# Altium schematic symbol library logic.SchLib: 34 symbols
Pins are listed as number, name and electrical type; pins without a type are passive.

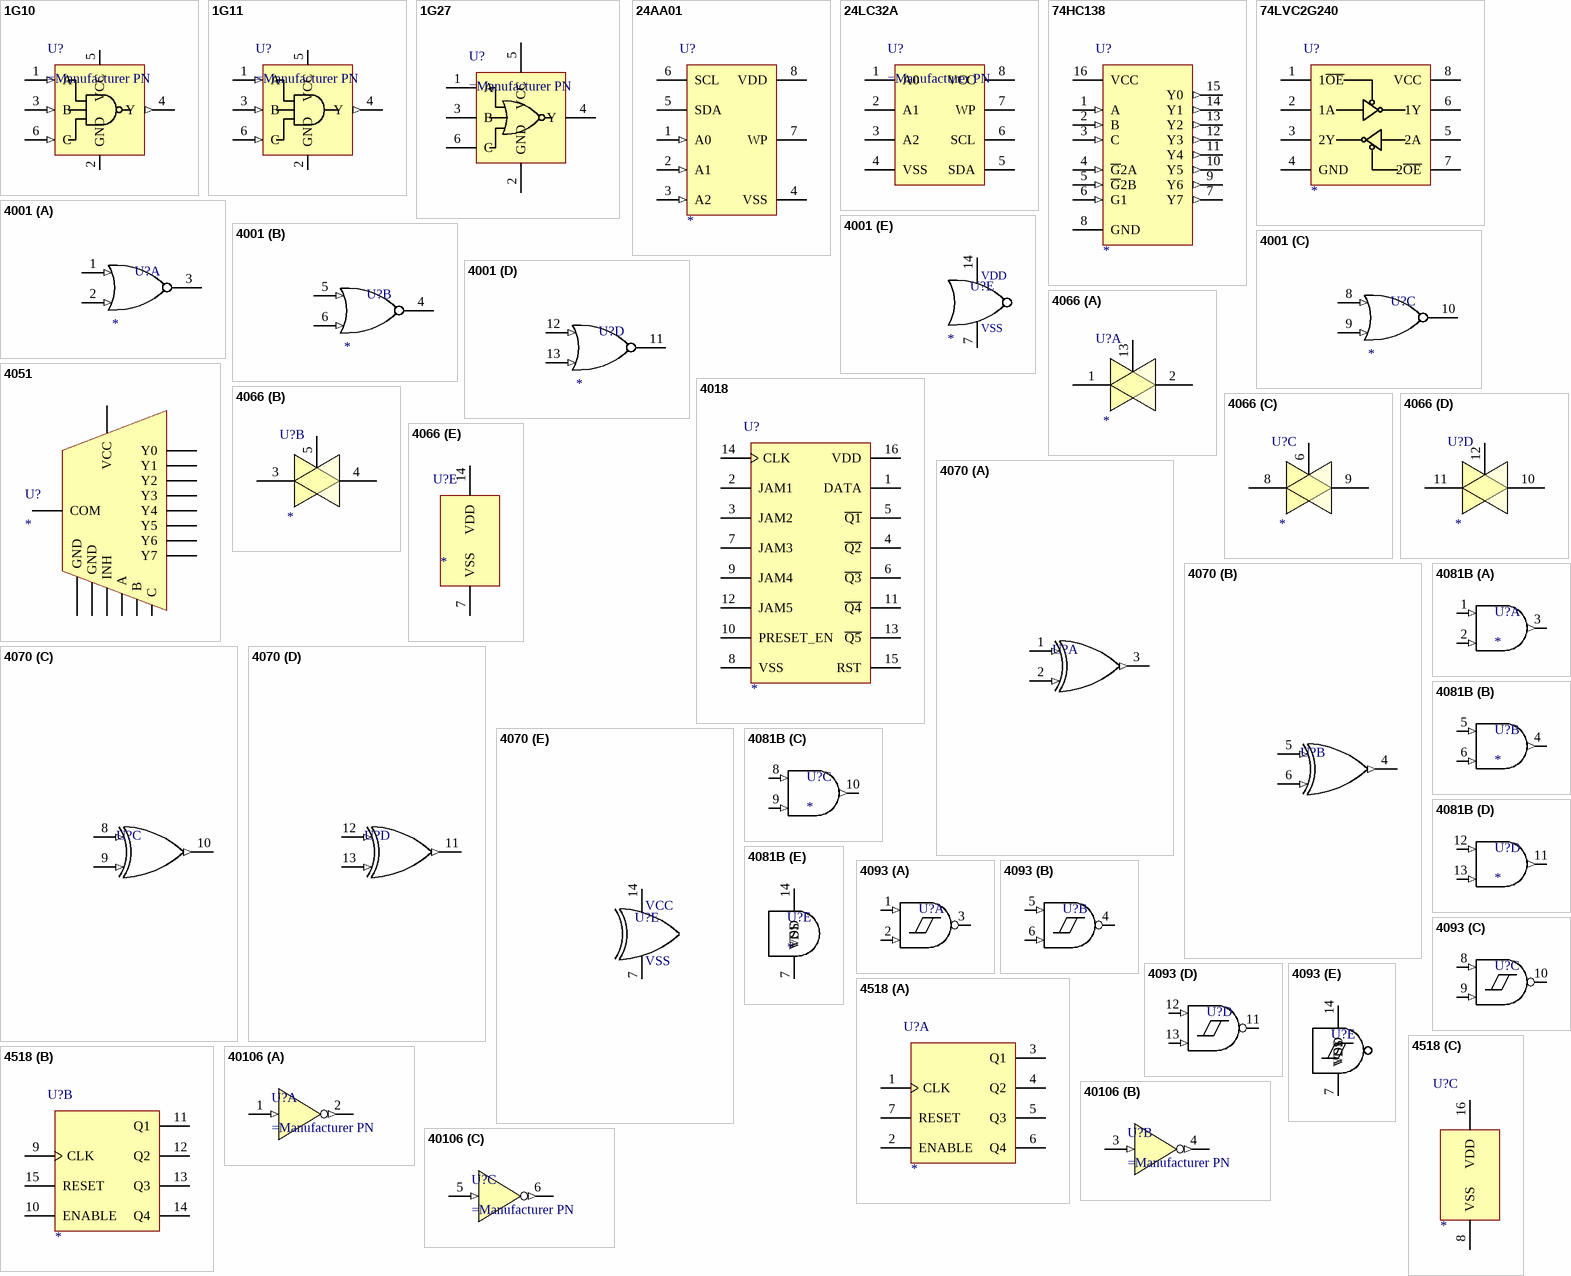
[diagram p0: symbols 1G10 to 40106]

## 1G10
designator U?
Single 3-Input NAND Gate
pins: 1 A (in), 2 GND (power), 3 B (in), 4 Y (out), 5 VCC (power), 6 C (in)

## 1G11
designator U?
Single 3-Input AND Gate
pins: 1 A (in), 2 GND (power), 3 B (in), 4 Y (out), 5 VCC (power), 6 C (in)

## 1G27
designator U?
Single 3-Input NOR Gate
pins: 1 A, 2 GND, 3 B, 4 Y, 5 VCC, 6 C

## 24AA01
designator U?
1Kbit I2C Serial EEPROM, 8-pin; Manufacturer PN: *
pins: 1 A0 (in), 2 A1 (in), 3 A2 (in), 4 VSS (power), 5 SDA (oc), 6 SCL (oc), 7 WP, 8 VDD (power)

## 24LC32A
designator U?
I2C EEPROM
pins: 1 A0, 2 A1, 3 A2, 4 VSS, 5 SDA, 6 SCL, 7 WP, 8 VCC

## 74HC138
designator U?
3:8 Decoder; Manufacturer PN: *
pins: 1 A (in), 2 B (in), 3 C (in), 4 ~{G}2A (in), 5 ~{G}2B (in), 6 G1 (in), 7 Y7 (out), 8 GND (power), 9 Y6 (out), 10 Y5 (out), 11 Y4 (out), 12 Y3 (out), 13 Y2 (out), 14 Y1 (out), 15 Y0 (out), 16 VCC (power)

## 74LVC2G240
designator U?
Dual Inverting Tri-State Buffer; Manufacturer PN: *
pins: 1 1~{OE}, 2 1A, 3 2Y, 4 GND, 5 2A, 6 1Y, 7 2~{OE}, 8 VCC

## 4001
designator U?
Quad NOR; Manufacturer PN: *
part A pins: 1 A (in), 2 B (in), 3 J
part B pins: 4 K, 5 C (in), 6 D (in)
part C pins: 8 E (in), 9 F (in), 10 L
part D pins: 11 M, 12 G (in), 13 H (in)
part E pins: 7 VSS, 14 VDD

## 4018
designator U?
Divide by N Counter; Manufacturer PN: *
pins: 1 DATA, 2 JAM1, 3 JAM2, 4 ~{Q2}, 5 ~{Q1}, 6 ~{Q3}, 7 JAM3, 8 VSS, 9 JAM4, 10 PRESET_EN, 11 ~{Q4}, 12 JAM5, 13 ~{Q5}, 14 CLK, 15 RST, 16 VDD

## 4051
designator U?
8:1 Analog Mux 4051 series; Manufacturer PN: *
pins: 1 Y4, 2 Y6, 3 COM, 4 Y7, 5 Y5, 6 INH, 7 GND, 8 GND, 9 C, 10 B, 11 A, 12 Y3, 13 Y0, 14 Y1, 15 Y2, 16 VCC

## 4066
designator U?
Quad Bilateral Switch; Manufacturer PN: *
part A pins: 1 IN/OUT, 2 OUT/IN, 13 CONTA
part B pins: 3 IN/OUT, 4 OUT/IN, 5 CONTB
part C pins: 6 CONTC, 8 IN/OUT, 9 OUT/IN
part D pins: 10 OUT/IN, 11 IN/OUT, 12 CONTD
part E pins: 7 VSS, 14 VDD

## 4070
designator U?  (value not drawn)
IC, Quad 2-Input XOR Gate; Manufacturer PN: *
part A pins: 1 1A (in), 2 1B (in), 3 1Y (out)
part B pins: 4 2Y (out), 5 2A (in), 6 2B (in)
part C pins: 8 3A (in), 9 3B (in), 10 3Y (out)
part D pins: 11 4Y (out), 12 4A (in), 13 4B (in)
part E pins: 7 GND (power), 14 VCC (power)
part E text: VSS

## 4081B
designator U?
Quad AAND Gate; Manufacturer PN: *
part A pins: 1 A (in), 2 B (in), 3 J (out)
part B pins: 4 K (out), 5 C (in), 6 D (in)
part C pins: 8 E (in), 9 F (in), 10 L (out)
part D pins: 11 M (out), 12 G (in), 13 H (in)
part E pins: 7 VSS (power), 14 VDD (power)

## 4093
designator U?  (value not drawn)
Quad NAND Gate, Schmitt Trigger Inputs; Manufacturer PN: *
part A pins: 1 A (in), 2 B (in), 3 J
part B pins: 4 K, 5 C (in), 6 D (in)
part C pins: 8 E (in), 9 F (in), 10 L
part D pins: 11 M, 12 G (in), 13 H (in)
part E pins: 7 VSS (power), 14 VDD (power)

## 4518
designator U?
Up Counter; Manufacturer PN: *
part A pins: 1 CLK, 2 ENABLE, 3 Q1, 4 Q2, 5 Q3, 6 Q4, 7 RESET
part B pins: 9 CLK, 10 ENABLE, 11 Q1, 12 Q2, 13 Q3, 14 Q4, 15 RESET
part C pins: 8 VSS, 16 VDD

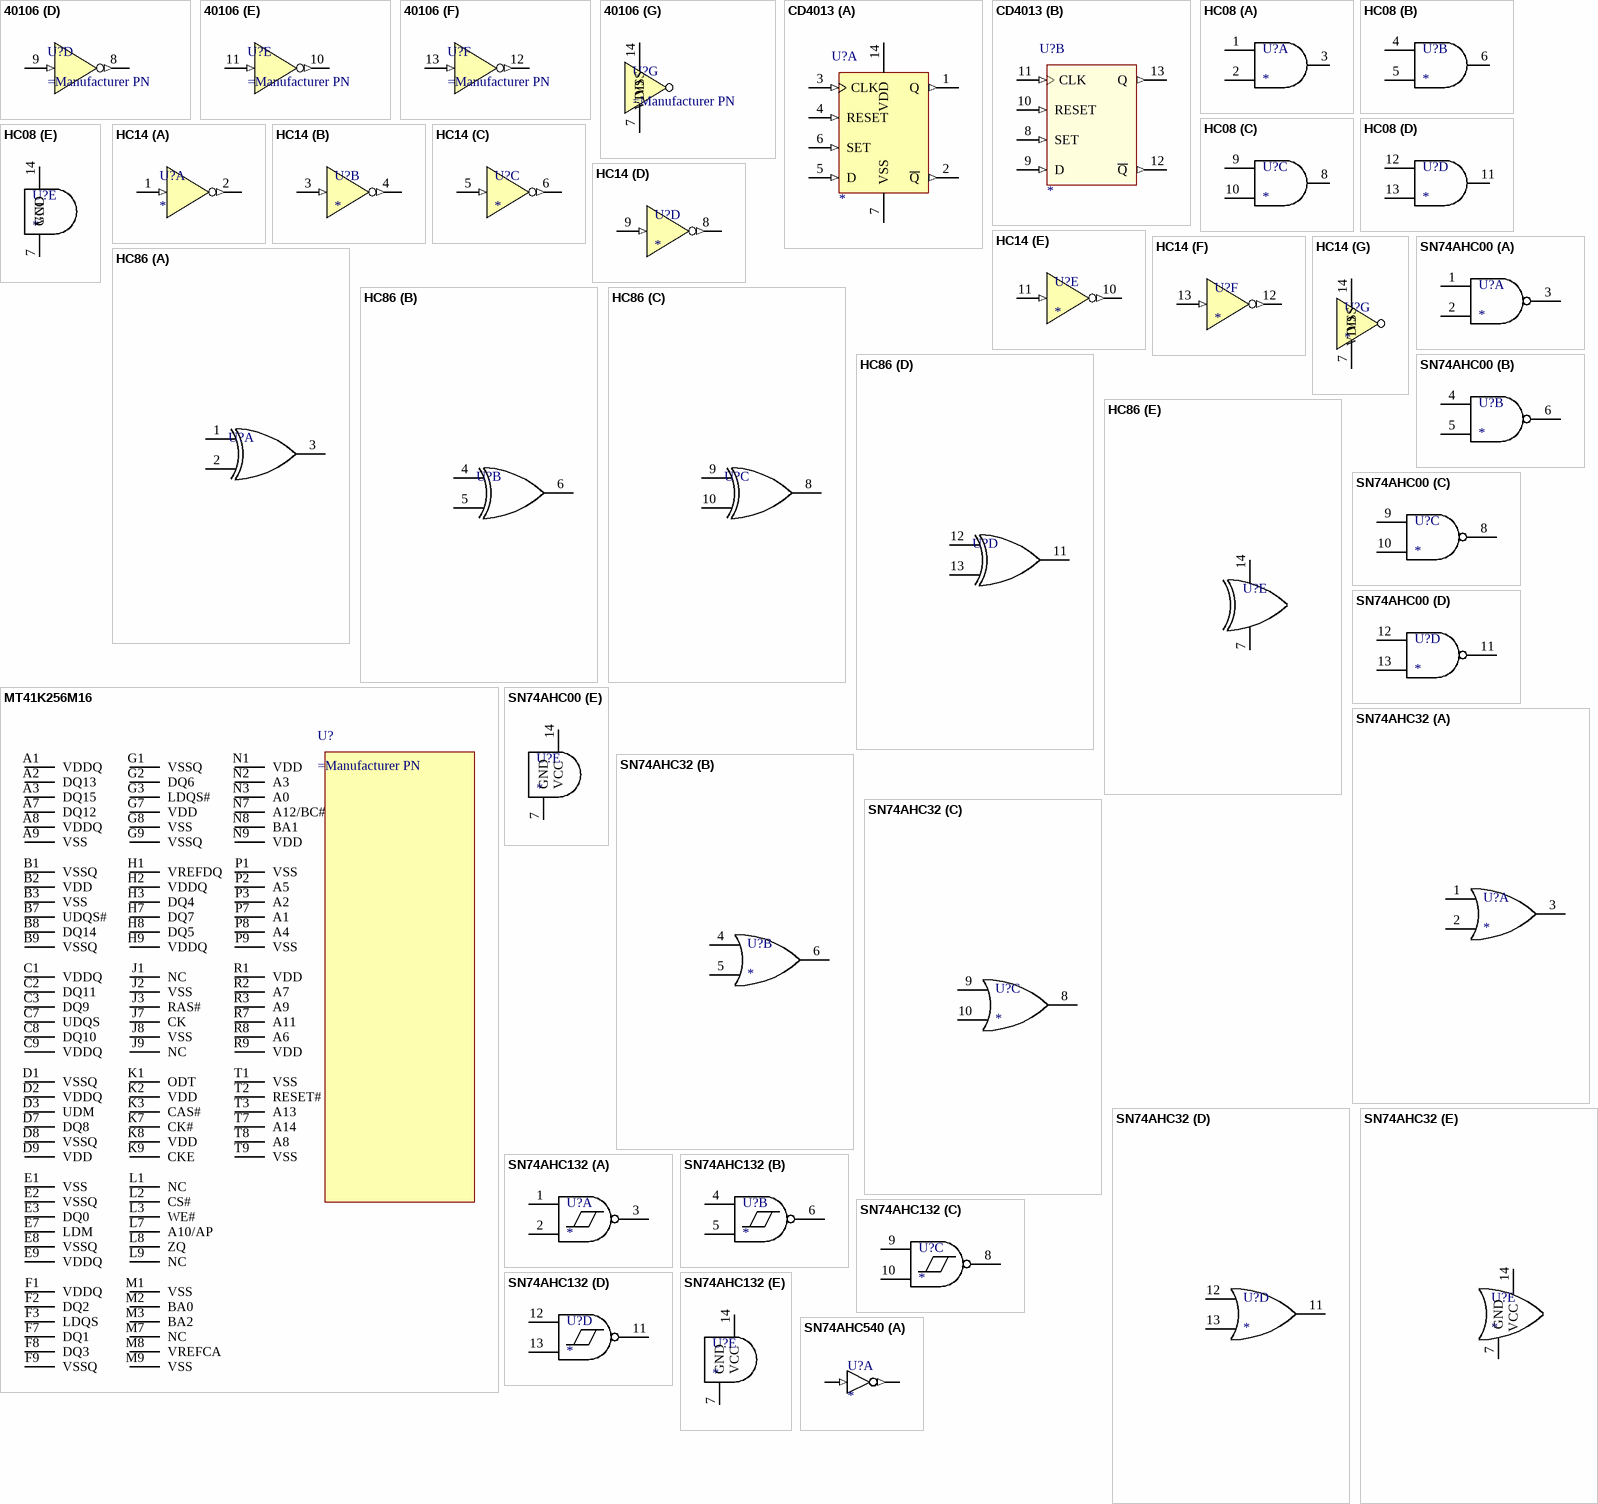
[diagram p1: symbols 40106 to SN74AHC540]

## 40106
designator U?
Hex Schmitt Trigger Inverter
part A pins: 1 A (in), 2 ~{A} (out)
part B pins: 3 B (in), 4 ~{B} (out)
part C pins: 5 C (in), 6 ~{C} (out)
part D pins: 8 J (out), 9 D (in)
part E pins: 10 K (out), 11 E (in)
part F pins: 12 L (out), 13 F (in)
part G pins: 7 VSS (power), 14 VDD (power)

## CD4013
designator U?
Dual D Flip-Flop; Manufacturer PN: *
part A pins: 1 Q (out), 2 ~{Q} (out), 3 CLK (in), 4 RESET (in), 5 D (in), 6 SET (in), 7 VSS (power), 14 VDD (power)
part B pins: 8 SET (in), 9 D (in), 10 RESET (in), 11 CLK (in), 12 ~{Q} (out), 13 Q (out)

## HC08
designator U?
AND Gate; Manufacturer PN: *
part A pins: 1 1A, 2 1B, 3 1Y
part B pins: 4 2A, 5 1B, 6 2Y
part C pins: 8 3Y, 9 3A, 10 3B
part D pins: 11 4Y, 12 4A, 13 4B
part E pins: 7 GND, 14 VCC

## HC14
designator U?
IC, Hex Inverter, Schmitt Trigger Inputs; Manufacturer PN: *
part A pins: 1 A (in), 2 ~{A} (out)
part B pins: 3 B (in), 4 ~{B} (out)
part C pins: 5 C (in), 6 ~{C} (out)
part D pins: 8 J (out), 9 D (in)
part E pins: 10 K (out), 11 E (in)
part F pins: 12 L (out), 13 F (in)
part G pins: 7 VSS (power), 14 VDD (power)

## HC86
designator U?  (value not drawn)
IC, Quad 2-Input XOR Gate; Manufacturer PN: *
part A pins: 1 1A, 2 1B, 3 1Y
part B pins: 4 2A, 5 2B, 6 2Y
part C pins: 8 3Y, 9 3A, 10 3B
part D pins: 11 4Y, 12 4A, 13 4B
part E pins: 7 GND, 14 VCC

## MT41K256M16
designator U?
Micron DDR3 SDRAM
pins: A1 VDDQ, A2 DQ13, A3 DQ15, A7 DQ12, A8 VDDQ, A9 VSS, B1 VSSQ, B2 VDD, B3 VSS, B7 UDQS#, B8 DQ14, B9 VSSQ, C1 VDDQ, C2 DQ11, C3 DQ9, C7 UDQS, C8 DQ10, C9 VDDQ, D1 VSSQ, D2 VDDQ, D3 UDM, D7 DQ8, D8 VSSQ, D9 VDD, E1 VSS, E2 VSSQ, E3 DQ0, E7 LDM, E8 VSSQ, E9 VDDQ, F1 VDDQ, F2 DQ2, F3 LDQS, F7 DQ1, F8 DQ3, F9 VSSQ, G1 VSSQ, G2 DQ6, G3 LDQS#, G7 VDD, G8 VSS, G9 VSSQ, H1 VREFDQ, H2 VDDQ, H3 DQ4, H7 DQ7, H8 DQ5, H9 VDDQ, J1 NC, J2 VSS, J3 RAS#, J7 CK, J8 VSS, J9 NC, K1 ODT, K2 VDD, K3 CAS#, K7 CK#, K8 VDD, K9 CKE, L1 NC, L2 CS#, L3 WE#, L7 A10/AP, L8 ZQ, L9 NC, M1 VSS, M2 BA0, M3 BA2, M7 NC, M8 VREFCA, M9 VSS, N1 VDD, N2 A3, N3 A0, N7 A12/BC#, N8 BA1, N9 VDD, P1 VSS, P2 A5, P3 A2, P7 A1, P8 A4, P9 VSS, R1 VDD, R2 A7, R3 A9, R7 A11, R8 A6, R9 VDD, T1 VSS, T2 RESET#, T3 A13, T7 A14, T8 A8, T9 VSS

## SN74AHC00
designator U?
Quad 2-input NAND gate
footprint SO-14 (SOIC, 14-Leads, Body 8.65x3.90mm, Pitch 1.27mm, IPC Medium Density)
footprint TSSOP-14_0
part A pins: 1 1A, 2 1B, 3 1Y
part B pins: 4 2A, 5 2B, 6 2Y
part C pins: 8 3Y, 9 3A, 10 3B
part D pins: 11 4Y, 12 4A, 13 4B
part E pins: 7 GND, 14 VCC

## SN74AHC32
designator U?
Quad 2-input OR gate
footprint SO-14 (SOIC, 14-Leads, Body 8.65x3.90mm, Pitch 1.27mm, IPC Medium Density)
footprint TSSOP-14_0
part A pins: 1 1A, 2 1B, 3 1Y
part B pins: 4 2A, 5 2B, 6 2Y
part C pins: 8 3Y, 9 3A, 10 3B
part D pins: 11 4Y, 12 4A, 13 4B
part E pins: 7 GND, 14 VCC

## SN74AHC132
designator U?
Quad NAND gate, Schmitt trigger inputs
footprint SO-14 (SOIC, 14-Leads, Body 8.65x3.90mm, Pitch 1.27mm, IPC Medium Density)
footprint TSSOP-14_0
part A pins: 1 1A, 2 1B, 3 1Y
part B pins: 4 2A, 5 2B, 6 2Y
part C pins: 8 3Y, 9 3A, 10 3B
part D pins: 11 4Y, 12 4A, 13 4B
part E pins: 7 GND, 14 VCC

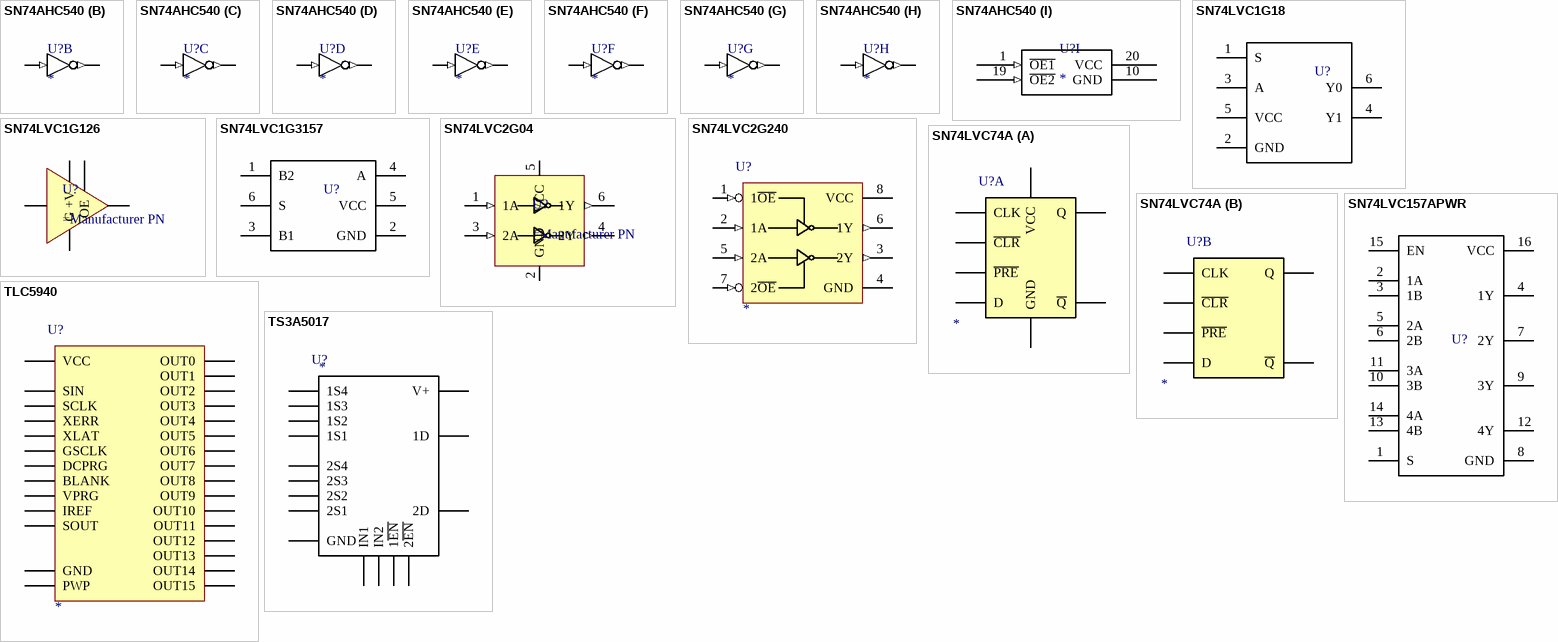
[diagram p2: symbols SN74AHC540 to TS3A5017]

## SN74AHC540
designator U?
IC, Buffer, inverting, octal
footprint TSSOP-20_0 (TSOP, 20-Leads, Body 6.50x4.40mm, Pitch 0.65mm, IPC Medium Density)
part A pins: 2 A1 (in), 18 Y1 (out)
part B pins: 3 A2 (in), 17 Y2 (out)
part C pins: 4 A3 (in), 16 Y3 (out)
part D pins: 5 A4 (in), 15 Y4 (out)
part E pins: 6 A5 (in), 14 Y5 (out)
part F pins: 7 A6 (in), 13 Y6 (out)
part G pins: 8 A7 (in), 12 Y7 (out)
part H pins: 9 A8 (in), 11 Y8 (out)
part I pins: 1 ~{OE1} (in), 10 GND (power), 19 ~{OE2} (in), 20 VCC (power)

## SN74LVC1G18
designator U?  (value not drawn)
pins: 1 S, 2 GND, 3 A, 4 Y1, 5 VCC, 6 Y0

## SN74LVC1G126
designator U?
IC, Single Buffer Tri-State output
pins: 1 OE, 2 A, 3 G, 4 Y, 5 +V

## SN74LVC1G3157
designator U?  (value not drawn)
pins: 1 B2, 2 GND, 3 B1, 4 A, 5 VCC, 6 S

## SN74LVC2G04
designator U?
pins: 1 1A (in), 2 GND (power), 3 2A (in), 4 2Y (out), 5 VCC (power), 6 1Y (out)

## SN74LVC2G240
designator U?
IC, Dual Tri-State Inverter; Manufacturer PN: *
pins: 1 1~{OE} (in), 2 1A (in), 3 2Y (out), 4 GND (power), 5 2A (in), 6 1Y (out), 7 2~{OE} (in), 8 VCC (power)

## SN74LVC74A
designator U?
Manufacturer PN: *
part A pins: 1 ~{CLR}, 2 D, 3 CLK, 4 ~{PRE}, 5 Q, 6 ~{Q}, 7 GND, 14 VCC
part B pins: 8 ~{Q}, 9 Q, 10 ~{PRE}, 11 CLK, 12 D, 13 ~{CLR}

## SN74LVC157APWR
designator U?  (value not drawn)
pins: 1 S, 2 1A, 3 1B, 4 1Y, 5 2A, 6 2B, 7 2Y, 8 GND, 9 3Y, 10 3B, 11 3A, 12 4Y, 13 4B, 14 4A, 15 EN, 16 VCC

## TLC5940
designator U?
IC, 16-Channel LED Driver, w/ Power Pad; Manufacturer PN: *
pins: 1 GND, 2 BLANK, 3 XLAT, 4 SCLK, 5 SIN, 6 VPRG, 7 OUT0, 8 OUT1, 9 OUT2, 10 OUT3, 11 OUT4, 12 OUT5, 13 OUT6, 14 OUT7, 15 OUT8, 16 OUT9, 17 OUT10, 18 OUT11, 19 OUT12, 20 OUT13, 21 OUT14, 22 OUT15, 23 XERR, 24 SOUT, 25 GSCLK, 26 DCPRG, 27 IREF, 28 VCC, 29 PWP

## TS3A5017
designator U?
IC Switch, Mux/Demux; Manufacturer PN: *
footprint tssop-16_0 (TSSOP-16 No Pad)
pins: 1 1~{EN}, 2 IN2, 3 1S4, 4 1S3, 5 1S2, 6 1S1, 7 1D, 8 GND, 9 2D, 10 2S1, 11 2S2, 12 2S3, 13 2S4, 14 IN1, 15 2~{EN}, 16 V+